# Altium footprint library Capacitors.PcbLib: 19 footprints (part 2 of 2)
Each footprint in its own frame and in the unit in brackets; x right, y up, seen from the top. Pads: shape width x height; smd on the part's side, far side on the other; paste and mask are expansions set on the pad; w line width, h text height; cw(c..) or ccw(c..) is an arc to the next point about the centre after c.
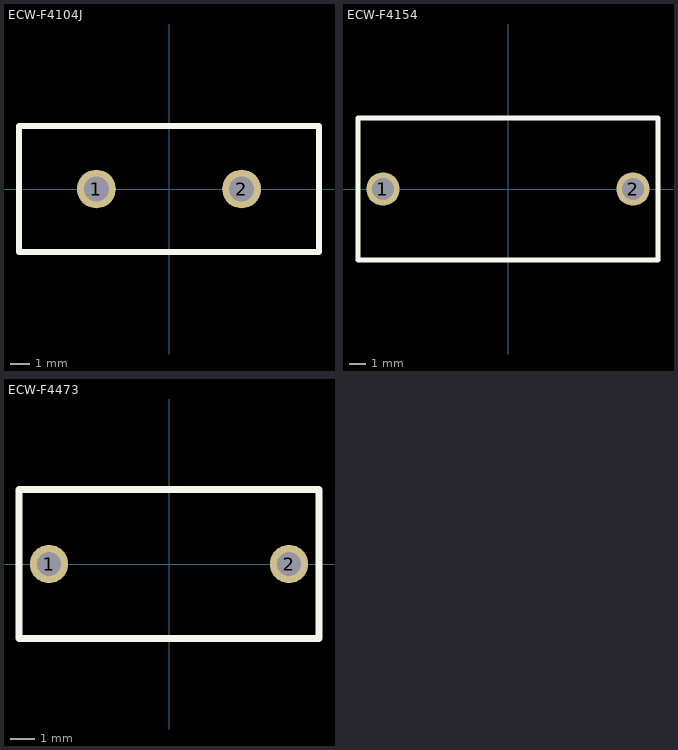
[diagram p1: the footprints below, top view; thin cyan lines are the x and y axes]

## ECW-F4104J [mm]
height 14
pads (2):
  round 2 hole 1.3: 1(-3.75,0) 2(3.75,0)
Top Overlay:
  lines w0.3: -7.75,-3.25 -7.75,3.25 7.75,3.25 7.75,-3.25 -7.75,-3.25
Top HCB:
  lines w0.05: -7.75,-3.25 -7.75,3.25 7.75,3.25 7.75,-3.25 -7.75,-3.25
  text ".Designator" at -2.253,-0.226 h1
3D body "ECW-F4104JL.stp": height 16.1, standoff -5, extent -7.75,-3.25 7.75,3.25

## ECW-F4154 [mm]
height 15
pads (2):
  round 2 hole 1.3 mask+0.1: 1(-7.5,0)
  round 2 hole 1.3: 2(7.5,0)
Top Overlay:
  lines w0.3: -9,-4.25 -9,4.25 9,4.25 9,-4.25 -9,-4.25
Top HCB:
  lines w0.05: -9,-4.25 9,-4.25 9,4.253 -9,4.253 -9,-4.25
  text ".Designator" at -2.253,-0.226 h1
3D body "r75pi31504030j.stp": height 14.6, standoff -35, extent -9.25,-4.455 9.25,4.25

## ECW-F4473 [mm]
height 12.5
pads (2):
  round 1.6 hole 1 mask+0.1: 1(-5,0) 2(5,0)
Top Overlay:
  lines w0.3: -6.25,-3.1 -6.25,3.1 6.25,3.1 6.25,-3.1 -6.25,-3.1
Top HCB:
  lines w0.05: -6.25,-3.1 6.25,-3.1 6.25,3.1 -6.25,3.1 -6.25,-3.1
  text ".Designator" at -2.253,-0.226 h1